# Altium schematic symbol library SCH_Antenna.SchLib: 3 symbols
Pins are listed as number, name and electrical type; pins without a type are passive.

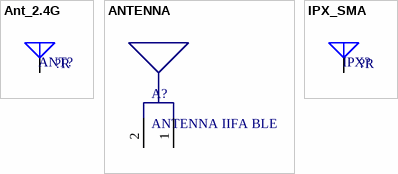
[diagram p0: symbols Ant_2.4G to IPX_SMA]

## Ant_2.4G
designator ANT?  value ?R  (hidden comment: Ant_2.4G)
Antenna
footprint ANT_2.4G_9.5x2.0
footprint ANT_2.4G_3.2x1.6
pins: 1 A

## ANTENNA
designator A?, comment ANTENNA IIFA BLE
footprint Model Name (Footprint not found)
footprint ANT_2.4G_PCB_1
pins: 1, 2

## IPX_SMA
designator IPX?  value ?R  (hidden comment: IPX_SMA)
IPX
footprint IPX_SMA
pins: 1 S